# Altium footprint library DT15-6P.PcbLib: 1 footprints
Each footprint in its own frame and in the unit in brackets; x right, y up, seen from the top. Pads: shape width x height; smd on the part's side, far side on the other; paste and mask are expansions set on the pad; w line width, h text height; cw(c..) or ccw(c..) is an arc to the next point about the centre after c.
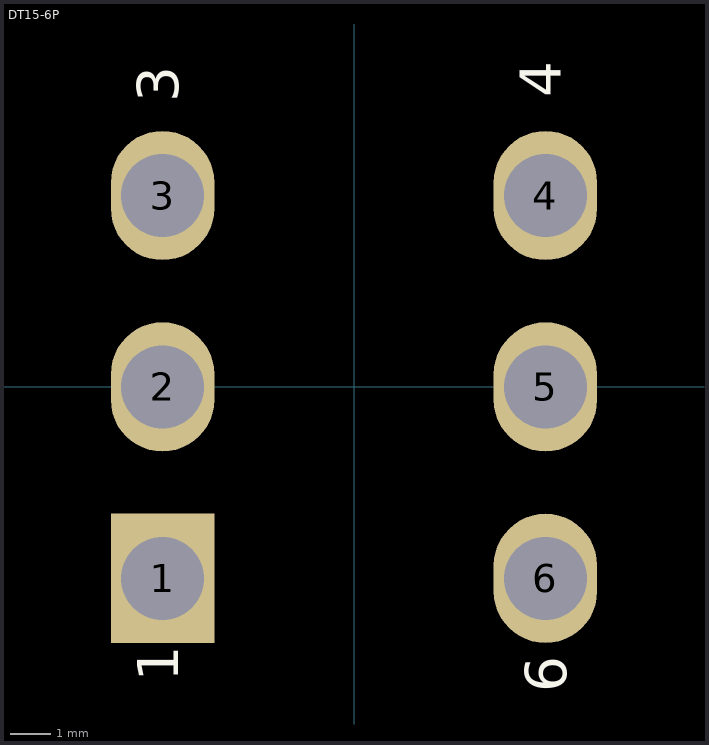
[diagram p0: the footprint, top view; thin cyan lines are the x and y axes]

## DT15-6P [mil]
pads (6):
  rect 100x125 hole 80: 1(-185,-185)
  oval 100x125 hole 80: 2(-185,0) 3(-185,185) 4(185,185) 5(185,0) 6(185,-185)
Top Overlay:
  text "4" at 200,280 h40
  text "6" at 205,-295 h40
  text "3" at -170,275 h40
  text "1" at -170,-285 h40
3D body: height 1246.2, standoff -123.48, extent -721.57,-938.93 721.58,813.1